# Altium footprint library E73.PcbLib: 1 footprints
Each footprint in its own frame and in the unit in brackets; x right, y up, seen from the top. Pads: shape width x height; smd on the part's side, far side on the other; paste and mask are expansions set on the pad; w line width, h text height; cw(c..) or ccw(c..) is an arc to the next point about the centre after c.
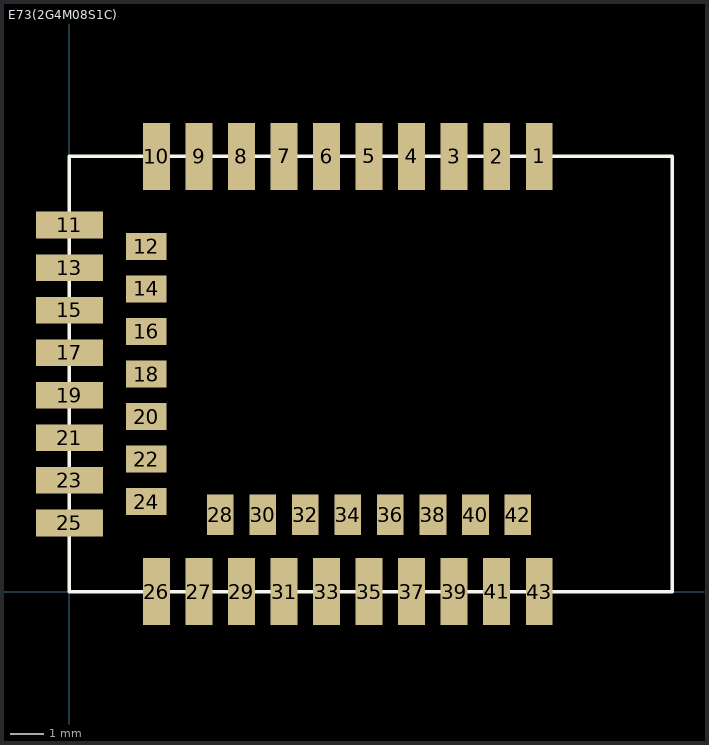
[diagram p0: the footprint, top view; thin cyan lines are the x and y axes]

## E73(2G4M08S1C) [mm]
pads (43):
  rect 0.8x2 smd: 1(14.03,13) 2(12.76,13) 3(11.49,13) 4(10.22,13) 5(8.95,13) 6(7.68,13) 7(6.41,13) 8(5.14,13) 9(3.873,13) 10(2.6,13) 26(2.6,0) 27(3.87,0) 29(5.14,0) 31(6.41,0) 33(7.68,0) 35(8.95,0) 37(10.22,0) 39(11.49,0) 41(12.757,0) 43(14.03,0)
  rect 2x0.8 smd: 11(0,10.945) 13(0,9.675) 15(0,8.405) 17(0,7.135) 19(0,5.865) 21(0,4.595) 23(0,3.325) 25(0,2.055)
  rect 1.2x0.8 smd: 12(2.3,10.31) 14(2.3,9.04) 16(2.3,7.77) 18(2.3,6.5) 20(2.3,5.23) 22(2.3,3.96) 24(2.3,2.69)
  rect 0.8x1.2 smd: 28(4.505,2.3) 30(5.775,2.3) 32(7.045,2.3) 34(8.315,2.3) 36(9.585,2.3) 38(10.855,2.3) 40(12.125,2.3) 42(13.39,2.3)
Top Overlay:
  lines w0.1: 0,0 18,0 18,13 0,13 0,0